# Altium schematic symbol library AD5204.SchLib: 1 symbol
Pins are listed as number, name and electrical type; pins without a type are passive.

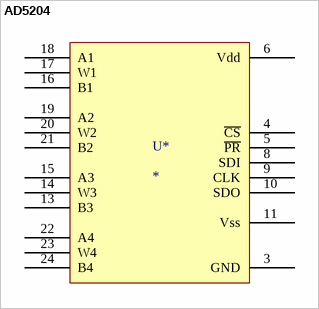
[diagram p0: symbol AD5204]

## AD5204
designator U*
footprint SOIC127P1030X265-24N(AD5204) (SOIC, 24-Leads, Body 15.40x7.50mm, Pitch 1.27mm, IPC Medium Density)
pins: 3 GND, 4 ~{CS}, 5 ~{PR}, 6 Vdd, 8 SDI, 9 CLK, 10 SDO, 11 Vss, 13 B3, 14 W3, 15 A3, 16 B1, 17 W1, 18 A1, 19 A2, 20 W2, 21 B2, 22 A4, 23 W4, 24 B4